# Altium schematic symbol library 68800113722.SchLib: 1 symbol
Pins are listed as number, name and electrical type; pins without a type are passive.

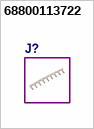
[diagram p0: symbol 68800113722]

## 68800113722
designator J?  (value not drawn)
68800113722DEC